# Altium integrated library Linear Technology Power Management Switching Regulator LTC1174-LTC3901.IntLib: 2647 symbols (part 18 of 364)
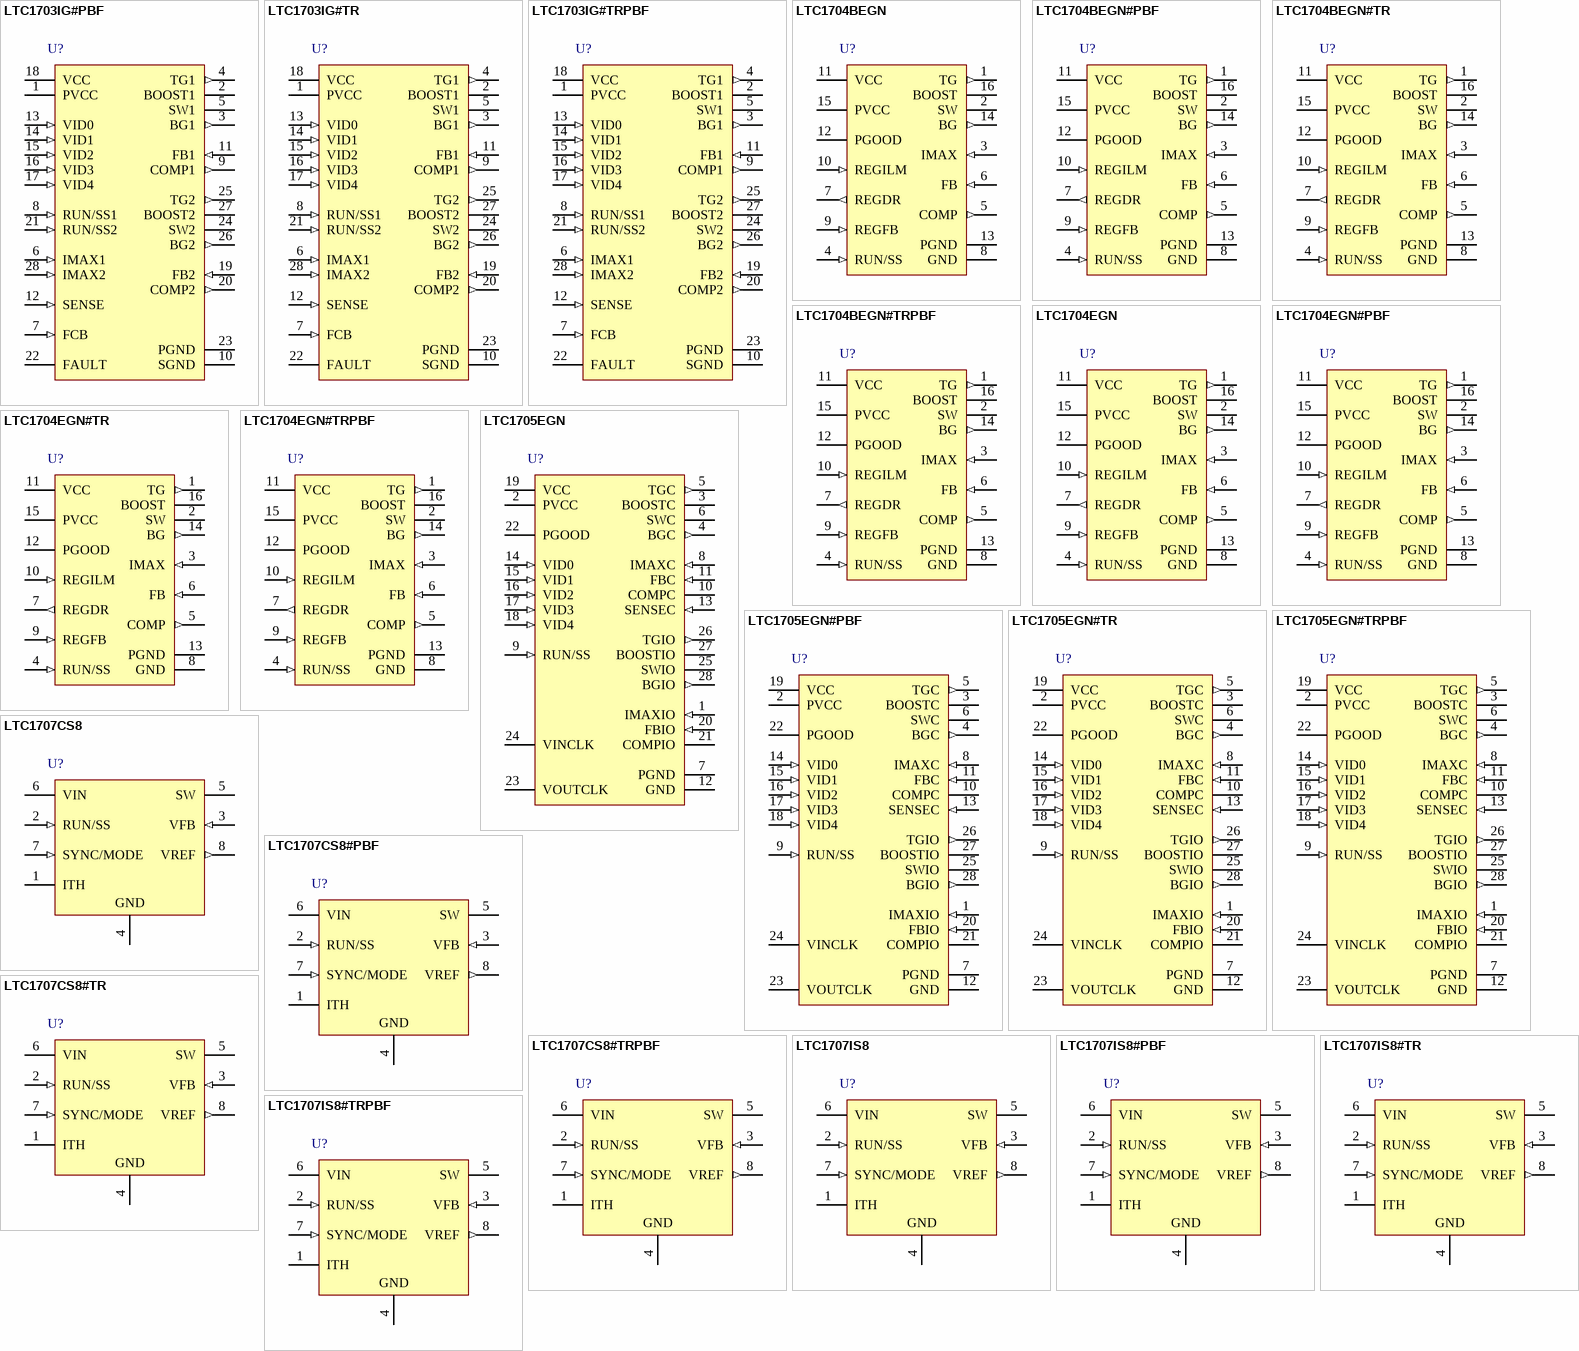
[diagram p224: symbols LTC1703IG#PBF to LTC1707IS8#TRPBF]

## LTC1707CS8#PBF
designator U?
High Efficiency Monolithic Synchronous Step-Down Switching Regulator, 8-pin SOIC (S8-8), 0 to 70 degC, Pb-Free; Manufacturer: Linear Technology; PartNumber: LTC1707CS8#PBF; Frequency Sync Range: 315kHz - 550kHz; Number of Outputs: 1; PackageVersion: Rev. G, 03/2012; PackageReference: S8-8; PackageDescription: 8-Pin Plastic Small Outline (Narrow .150 Inch), Body 4.9 x 3.9 mm, Pitch 1.27 mm; Supplier 1: Digi-Key; Supplier Part Number 1: LTC1707CS8#PBF-ND; Supplier 2: Farnell; Supplier Part Number 2: 1273531; Supplier 3: Newark; Supplier Part Number 3: 56M3398; RoHS: TRUE; Mounting Technology: Surface Mount; ComponentLink1Description: Manufacturer URL; ComponentLink1URL: http://www.linear.com/; ComponentLink2Description: Datasheet; ComponentLink2URL: http://cds.linear.com/docs/en/datasheet/1707f.pdf; ComponentLink3Description: Package Specification; ComponentLink3URL: http://cds.linear.com/docs/en/packaging/05081610_G_SO8.pdf
footprint LT-S8-8_N (SOIC, 8-Leads, Body 5x4mm, Pitch 1.27mm, IPC Medium Density)
footprint LT-S8-8_L (SOIC, 8-Leads, Body 5x4mm, Pitch 1.27mm, IPC High Density)
footprint LT-S8-8_M (SOIC, 8-Leads, Body 5x4mm, Pitch 1.27mm, IPC Low Density)
pins: 1 ITH "Error Amplifier Compensation Point. The current comparator threshold increases with this control voltage. Nominal voltage range for this pin is 0V to 1.2V.", 2 RUN/SS (in), 3 VFB (in) "Feedback Pin. Receives the feedback voltage from an external resistive divider across the output.", 4 GND (power) "Ground Pin.", 5 SW (power) "Switch Node Connection to Inductor. This pin connects to the drains of the internal main and synchronous power MOSFET switches.", 6 VIN (power) "Main Supply Pin. Must be closely decoupled to GND, Pin 4.", 7 SYNC/MODE (in), 8 VREF (out) "The Output of a 1.19V +/-1% Precision Reference. May be loaded up to 100uA and is stable with up to 2000pF load capacitance."

## LTC1707CS8#TR
designator U?
High Efficiency Monolithic Synchronous Step-Down Switching Regulator, 8-pin SOIC (S8-8), 0 to 70 degC, Tape and Reel; Manufacturer: Linear Technology; PartNumber: LTC1707CS8#TR; Frequency Sync Range: 315kHz - 550kHz; Number of Outputs: 1; PackageVersion: Rev. G, 03/2012; PackageReference: S8-8; PackageDescription: 8-Pin Plastic Small Outline (Narrow .150 Inch), Body 4.9 x 3.9 mm, Pitch 1.27 mm; Supplier 1: Digi-Key; Supplier Part Number 1: LTC1707CS8#TR-ND; Packing: Tape and Reel; RoHS: FALSE; Mounting Technology: Surface Mount; ComponentLink1Description: Manufacturer URL; ComponentLink1URL: http://www.linear.com/; ComponentLink2Description: Datasheet; ComponentLink2URL: http://cds.linear.com/docs/en/datasheet/1707f.pdf; ComponentLink3Description: Package Specification; ComponentLink3URL: http://cds.linear.com/docs/en/packaging/05081610_G_SO8.pdf
footprint LT-S8-8_N (SOIC, 8-Leads, Body 5x4mm, Pitch 1.27mm, IPC Medium Density)
footprint LT-S8-8_L (SOIC, 8-Leads, Body 5x4mm, Pitch 1.27mm, IPC High Density)
footprint LT-S8-8_M (SOIC, 8-Leads, Body 5x4mm, Pitch 1.27mm, IPC Low Density)
pins: 1 ITH "Error Amplifier Compensation Point. The current comparator threshold increases with this control voltage. Nominal voltage range for this pin is 0V to 1.2V.", 2 RUN/SS (in), 3 VFB (in) "Feedback Pin. Receives the feedback voltage from an external resistive divider across the output.", 4 GND (power) "Ground Pin.", 5 SW (power) "Switch Node Connection to Inductor. This pin connects to the drains of the internal main and synchronous power MOSFET switches.", 6 VIN (power) "Main Supply Pin. Must be closely decoupled to GND, Pin 4.", 7 SYNC/MODE (in), 8 VREF (out) "The Output of a 1.19V +/-1% Precision Reference. May be loaded up to 100uA and is stable with up to 2000pF load capacitance."

## LTC1707CS8#TRPBF
designator U?
High Efficiency Monolithic Synchronous Step-Down Switching Regulator, 8-pin SOIC (S8-8), 0 to 70 degC, Pb-Free, Tape and Reel; Manufacturer: Linear Technology; PartNumber: LTC1707CS8#TRPBF; Frequency Sync Range: 315kHz - 550kHz; Number of Outputs: 1; PackageVersion: Rev. G, 03/2012; PackageReference: S8-8; PackageDescription: 8-Pin Plastic Small Outline (Narrow .150 Inch), Body 4.9 x 3.9 mm, Pitch 1.27 mm; Supplier 1: Digi-Key; Supplier Part Number 1: LTC1707CS8#TRPBF-ND; Packing: Tape and Reel; RoHS: TRUE; Mounting Technology: Surface Mount; ComponentLink1Description: Manufacturer URL; ComponentLink1URL: http://www.linear.com/; ComponentLink2Description: Datasheet; ComponentLink2URL: http://cds.linear.com/docs/en/datasheet/1707f.pdf; ComponentLink3Description: Package Specification; ComponentLink3URL: http://cds.linear.com/docs/en/packaging/05081610_G_SO8.pdf
footprint LT-S8-8_N (SOIC, 8-Leads, Body 5x4mm, Pitch 1.27mm, IPC Medium Density)
footprint LT-S8-8_L (SOIC, 8-Leads, Body 5x4mm, Pitch 1.27mm, IPC High Density)
footprint LT-S8-8_M (SOIC, 8-Leads, Body 5x4mm, Pitch 1.27mm, IPC Low Density)
pins: 1 ITH "Error Amplifier Compensation Point. The current comparator threshold increases with this control voltage. Nominal voltage range for this pin is 0V to 1.2V.", 2 RUN/SS (in), 3 VFB (in) "Feedback Pin. Receives the feedback voltage from an external resistive divider across the output.", 4 GND (power) "Ground Pin.", 5 SW (power) "Switch Node Connection to Inductor. This pin connects to the drains of the internal main and synchronous power MOSFET switches.", 6 VIN (power) "Main Supply Pin. Must be closely decoupled to GND, Pin 4.", 7 SYNC/MODE (in), 8 VREF (out) "The Output of a 1.19V +/-1% Precision Reference. May be loaded up to 100uA and is stable with up to 2000pF load capacitance."

## LTC1707IS8
designator U?
High Efficiency Monolithic Synchronous Step-Down Switching Regulator, 8-pin SOIC (S8-8), -40 to 85 degC; Manufacturer: Linear Technology; PartNumber: LTC1707IS8; Frequency Sync Range: 315kHz - 550kHz; Number of Outputs: 1; PackageVersion: Rev. G, 03/2012; PackageReference: S8-8; PackageDescription: 8-Pin Plastic Small Outline (Narrow .150 Inch), Body 4.9 x 3.9 mm, Pitch 1.27 mm; Supplier 1: Digi-Key; Supplier Part Number 1: LTC1707IS8-ND; RoHS: FALSE; Mounting Technology: Surface Mount; ComponentLink1Description: Manufacturer URL; ComponentLink1URL: http://www.linear.com/; ComponentLink2Description: Datasheet; ComponentLink2URL: http://cds.linear.com/docs/en/datasheet/1707f.pdf; ComponentLink3Description: Package Specification; ComponentLink3URL: http://cds.linear.com/docs/en/packaging/05081610_G_SO8.pdf
footprint LT-S8-8_N (SOIC, 8-Leads, Body 5x4mm, Pitch 1.27mm, IPC Medium Density)
footprint LT-S8-8_L (SOIC, 8-Leads, Body 5x4mm, Pitch 1.27mm, IPC High Density)
footprint LT-S8-8_M (SOIC, 8-Leads, Body 5x4mm, Pitch 1.27mm, IPC Low Density)
pins: 1 ITH "Error Amplifier Compensation Point. The current comparator threshold increases with this control voltage. Nominal voltage range for this pin is 0V to 1.2V.", 2 RUN/SS (in), 3 VFB (in) "Feedback Pin. Receives the feedback voltage from an external resistive divider across the output.", 4 GND (power) "Ground Pin.", 5 SW (power) "Switch Node Connection to Inductor. This pin connects to the drains of the internal main and synchronous power MOSFET switches.", 6 VIN (power) "Main Supply Pin. Must be closely decoupled to GND, Pin 4.", 7 SYNC/MODE (in), 8 VREF (out) "The Output of a 1.19V +/-1% Precision Reference. May be loaded up to 100uA and is stable with up to 2000pF load capacitance."

## LTC1707IS8#PBF
designator U?
High Efficiency Monolithic Synchronous Step-Down Switching Regulator, 8-pin SOIC (S8-8), -40 to 85 degC, Pb-Free; Manufacturer: Linear Technology; PartNumber: LTC1707IS8#PBF; Frequency Sync Range: 315kHz - 550kHz; Number of Outputs: 1; PackageVersion: Rev. G, 03/2012; PackageReference: S8-8; PackageDescription: 8-Pin Plastic Small Outline (Narrow .150 Inch), Body 4.9 x 3.9 mm, Pitch 1.27 mm; Supplier 1: Digi-Key; Supplier Part Number 1: LTC1707IS8#PBF-ND; Supplier 2: Farnell; Supplier Part Number 2: 2295004; Supplier 3: Newark; Supplier Part Number 3: 56M3402; RoHS: TRUE; Mounting Technology: Surface Mount; ComponentLink1Description: Manufacturer URL; ComponentLink1URL: http://www.linear.com/; ComponentLink2Description: Datasheet; ComponentLink2URL: http://cds.linear.com/docs/en/datasheet/1707f.pdf; ComponentLink3Description: Package Specification; ComponentLink3URL: http://cds.linear.com/docs/en/packaging/05081610_G_SO8.pdf
footprint LT-S8-8_N (SOIC, 8-Leads, Body 5x4mm, Pitch 1.27mm, IPC Medium Density)
footprint LT-S8-8_L (SOIC, 8-Leads, Body 5x4mm, Pitch 1.27mm, IPC High Density)
footprint LT-S8-8_M (SOIC, 8-Leads, Body 5x4mm, Pitch 1.27mm, IPC Low Density)
pins: 1 ITH "Error Amplifier Compensation Point. The current comparator threshold increases with this control voltage. Nominal voltage range for this pin is 0V to 1.2V.", 2 RUN/SS (in), 3 VFB (in) "Feedback Pin. Receives the feedback voltage from an external resistive divider across the output.", 4 GND (power) "Ground Pin.", 5 SW (power) "Switch Node Connection to Inductor. This pin connects to the drains of the internal main and synchronous power MOSFET switches.", 6 VIN (power) "Main Supply Pin. Must be closely decoupled to GND, Pin 4.", 7 SYNC/MODE (in), 8 VREF (out) "The Output of a 1.19V +/-1% Precision Reference. May be loaded up to 100uA and is stable with up to 2000pF load capacitance."